# Altium schematic symbol library FerriteBead0805.SchLib: 1 symbol
Pins are listed as number, name and electrical type; pins without a type are passive.

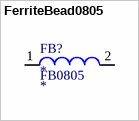
[diagram p0: symbol FerriteBead0805]

## FerriteBead0805
designator FB?, comment FB0805
Ferrite Bead 0805; Resistance: *; Max_Current: *
footprint FerriteBead0805_WurthElectronik
pins: 1, 2